# Altium footprint library mini-360.PcbLib: 1 footprints
Each footprint in its own frame and in the unit in brackets; x right, y up, seen from the top. Pads: shape width x height; smd on the part's side, far side on the other; paste and mask are expansions set on the pad; w line width, h text height; cw(c..) or ccw(c..) is an arc to the next point about the centre after c.
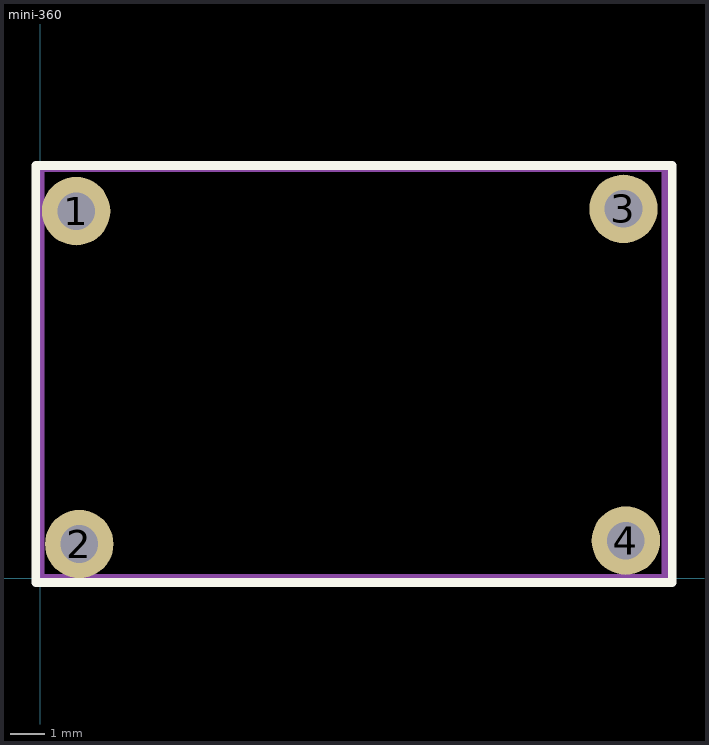
[diagram p0: the footprint, top view; thin cyan lines are the x and y axes]

## mini-360 [mm]
pads (4):
  round 2 hole 1.1: 1(1.05,10.73) 2(1.143,1) 3(17.05,10.795) 4(17.12,1.1)
Top Overlay:
  lines w0.254: -0.127,-0.127 18.473,-0.127 18.473,12.065 -0.127,12.065 -0.127,-0.127
Mechanical 1:
  lines w0.254: 0,0 18.288,0 18.288,12 0,12 0,0
3D body "mini360.step": height 6.8, standoff 2.6, extent 0,0 18.093,12
3D body "header1pin.stp": height 5.58, standoff -5.96, extent 15.79,9.513 18.33,12.053
3D body "header1pin.stp": height 5.58, standoff -5.96, extent 15.84,-0.152 18.38,2.388
3D body "header1pin.stp": height 5.58, standoff -5.96, extent -0.16,-0.252 2.38,2.288
3D body "header1pin.stp": height 5.58, standoff -5.96, extent -0.21,9.448 2.33,11.988